# EAGLE library part 6250XX22323_62501022323 (library WR-BHD)
WR-BHD 2.00 mm Cable Side Characteristics Rated current: 1 A Working Voltage: 250 V UL approval: E323964 UL94-V0 Applications Industrial Production lines Details see: www.we-online.com/components/products/WTB_WR_BHD_BOX_HEADER_2_00MM_FEMALE Updated by Ella 2026-09-16 2026 (C) Würth Elektronik
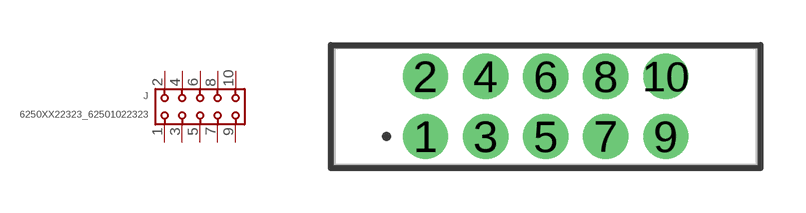
[diagram p67: symbol with the pads of 62501022323; footprint 62501022323]

Designator prefix J

## 6250XX22323_62501022323 (CATEGORY: Connectors; DATASHEET: https://www.we-online.com/redexpert/spec/62501022323?ae; GENDER: Female; LENGTH: 14.1 mm; MANUFACTURER: Würth Elektronik; MATES_WITH: 600625282804; MOUNT: THT; MPN: 62501022323; OPERATING_TEMPERATURE: -40 °C up to +125 °C; PACKAGING: Tray; PINS: 10; PITCH: 2mm; RATED_CURRENT: 1 A; SIZE: Transition; TYPE: Straight; VALUE: 62501022323)  [62501022323]
1  1  pas
2  2  pas
3  3  pas
4  4  pas
5  5  pas
6  6  pas
7  7  pas
8  8  pas
9  9  pas
10  10  pas

## Footprint 62501022323 (pad centres in mm)
WR-BHD Wire-to-Board Connectors, 2mm, Female, Transition, 10pins
drill 1: 1 -4,-1; 2 -4,1; 3 -2,-1; 4 -2,1; 5 0,-1; 6 0,1; 7 2,-1; 8 2,1; 9 4,-1; 10 4,1